# EAGLE library part TPS9255 (library PTN78000WAH)
450mA 23W Constant Current Buck LED Driver Micro-Module
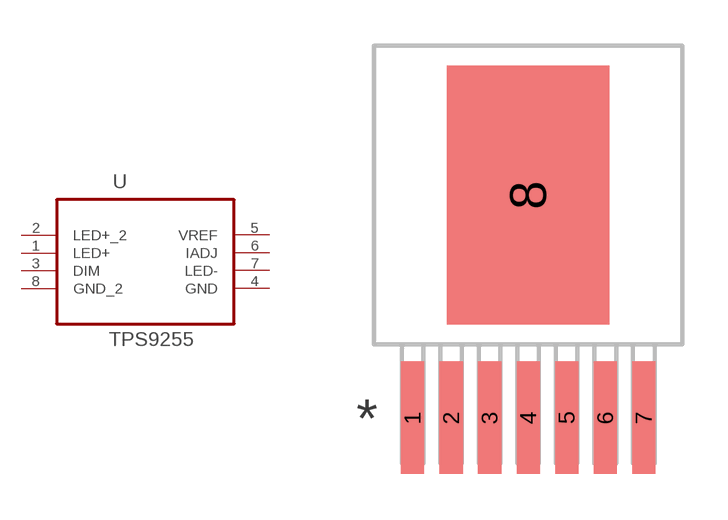
[diagram p8: symbol with the pads of TI_TO-PMOD-7; footprint TI_TO-PMOD-7]

Designator prefix U

## TPS92550TZ/NOPB (MPN: TPS92550TZ/NOPB; OC_FARNELL: Unknown; OC_NEWARK: 05W8695; PACKAGE: PFM-7; SUPPLIER: TEXAS INSTRUMENTS), TPS92551TZ/NOPB (MPN: TPS92551TZ/NOPB; OC_FARNELL: Unknown; OC_NEWARK: 05W8697; PACKAGE: PFM-7; SUPPLIER: TEXAS INSTRUMENTS)  [TI_TO-PMOD-7]
1  LED+  pwr
2  LED+_2  pwr
3  DIM  in
4  GND  pas
5  VREF  pas
6  IADJ  pas
7  LED-  pas
8  GND_2  pas

## Footprint TI_TO-PMOD-7 (pad centres in mm)
smd 0.762 x 3.708: 1 -3.81,-7.341; 2 -2.54,-7.341; 3 -1.27,-7.341; 4 0,-7.341; 5 1.27,-7.341; 6 2.54,-7.341; 7 3.81,-7.341
smd 5.35 x 8.54: 8 0,0